# Altium schematic symbol library TRANSISTOR.SchLib: 3 symbols
Pins are listed as number, name and electrical type; pins without a type are passive.

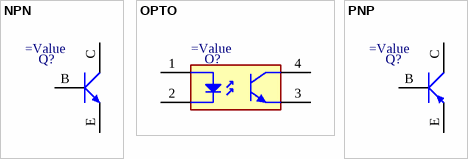
[diagram p0: symbols NPN to PNP]

## NPN
designator Q?
=Description
pins: B, C, E

## OPTO
designator O?
=Description
pins: 1, 2, 3, 4

## PNP
designator Q?
=Description
pins: B, C, E